# EAGLE library part MOLEX-EC25BOARD-PCIE (library molex-67910-0002)
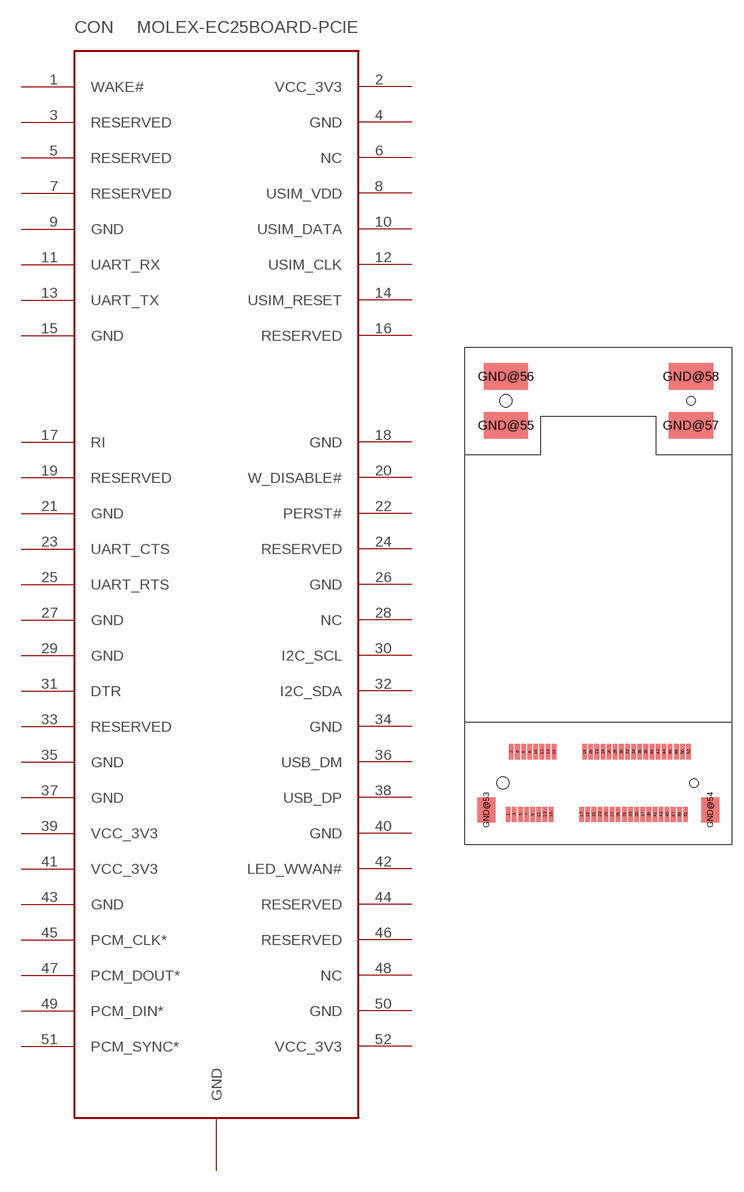
[diagram p0: symbol with the pads of 67910-0002; footprint 67910-0002]

Designator prefix CON

## MOLEX-EC25BOARD-PCIE  [67910-0002]
1  WAKE#
2  VCC_3V3
3  RESERVED
4  GND
5  RESERVED
6  NC
7  RESERVED
8  USIM_VDD
9  GND
10  USIM_DATA
11  UART_RX
12  USIM_CLK
13  UART_TX
14  USIM_RESET
15  GND
16  RESERVED
17  RI
18  GND
19  RESERVED
20  W_DISABLE#
21  GND
22  PERST#
23  UART_CTS
24  RESERVED
25  UART_RTS
26  GND
27  GND
28  NC
29  GND
30  I2C_SCL
31  DTR
32  I2C_SDA
33  RESERVED
34  GND
35  GND
36  USB_DM
37  GND
38  USB_DP
39  VCC_3V3
40  GND
41  VCC_3V3
42  LED_WWAN#
43  GND
44  RESERVED
45  PCM_CLK*
46  RESERVED
47  PCM_DOUT*
48  NC
49  PCM_DIN*
50  GND
51  PCM_SYNC*
52  VCC_3V3
GND@53  GND
GND@54  GND
GND@55  GND
GND@56  GND
GND@57  GND
GND@58  GND

## Footprint 67910-0002 (pad centres in mm)
smd 0.6 x 2: 1 0.7,-4.1; 2 1.1,4.1; 3 1.5,-4.1; 4 1.9,4.1; 5 2.3,-4.1; 6 2.7,4.1; 7 3.1,-4.1; 8 3.5,4.1; 9 3.9,-4.1; 10 4.3,4.1; 11 4.7,-4.1; 12 5.1,4.1; 13 5.5,-4.1; 14 5.9,4.1; 15 6.3,-4.1; 16 6.7,4.1; 17 10.3,-4.1; 18 10.7,4.1; 19 11.1,-4.1; 20 11.5,4.1; 21 11.9,-4.1; 22 12.3,4.1; 23 12.7,-4.1; 24 13.1,4.1; 25 13.5,-4.1; 26 13.9,4.1; 27 14.3,-4.1; 28 14.7,4.1; 29 15.1,-4.1; 30 15.5,4.1; 31 15.9,-4.1; 32 16.3,4.1; 33 16.7,-4.1; 34 17.1,4.1; 35 17.5,-4.1; 36 17.9,4.1; 37 18.3,-4.1; 38 18.7,4.1; 39 19.1,-4.1; 40 19.5,4.1; 41 19.9,-4.1; 42 20.3,4.1; 43 20.7,-4.1; 44 21.1,4.1; 45 21.5,-4.1; 46 21.9,4.1; 47 22.3,-4.1; 48 22.7,4.1; 49 23.1,-4.1; 50 23.5,4.1; 51 23.9,-4.1; 52 24.3,4.1
smd 2.4 x 3.3: GND@53 -2.15,-3.5; GND@54 27.15,-3.5
smd 5.8 x 3.5: GND@55 0.4,46.8; GND@56 0.4,53.2; GND@57 24.6,46.8; GND@58 24.6,53.2
hole 1.6 at 0,0
hole 1.1 at 25,0
hole 1.6 at 0.4,50
hole 1.1 at 24.6,50